# Altium footprint library Passives.PcbLib: 12 footprints
Each footprint in its own frame and in the unit in brackets; x right, y up, seen from the top. Pads: shape width x height; smd on the part's side, far side on the other; paste and mask are expansions set on the pad; w line width, h text height; cw(c..) or ccw(c..) is an arc to the next point about the centre after c.
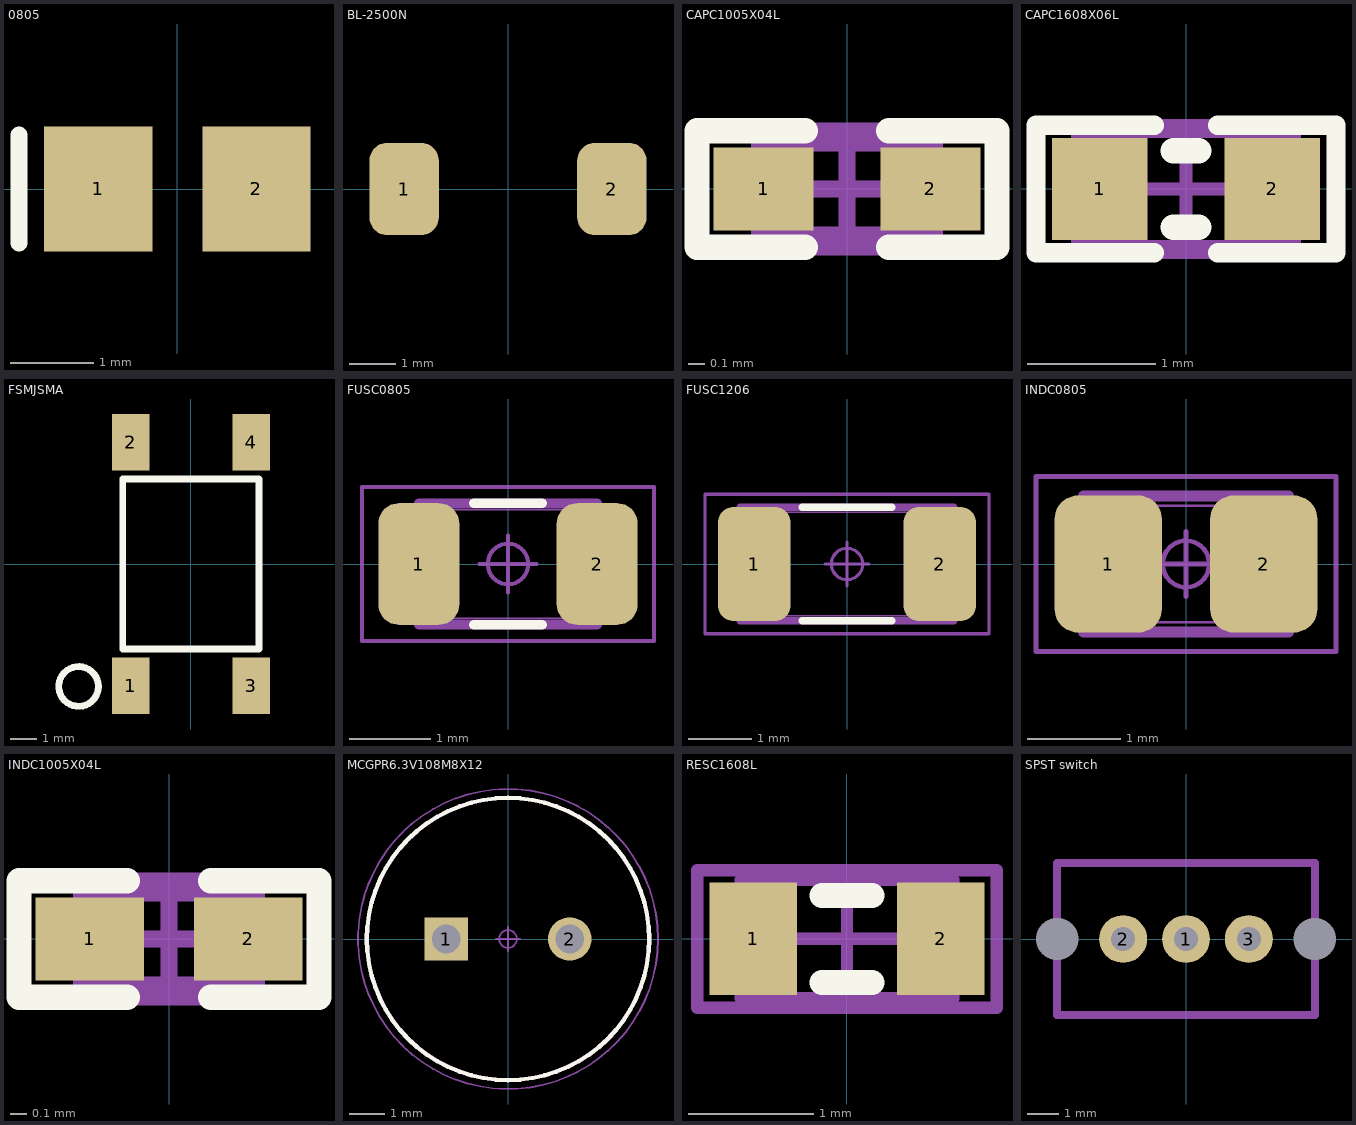
[diagram p0: the footprints below, top view; thin cyan lines are the x and y axes]

## 0805 [mm] "Chip Capacitor; Body 2.0 x 1.2 mm (LxW typ)"
height 1.3
pads (2):
  rect 1.3x1.5 smd: 1(-0.95,0) 2(0.95,0)
Top Overlay:
  lines w0.2: -1.9,-0.65 -1.9,0.65

## BL-2500N [mm] "Vibration sensor switch"
pads (2):
  rrect50% 1.5x2 smd: 1(-2.25,0) 2(2.25,0)
3D body: height 2.5, standoff 0, extent -2.4,-1.25 2.4,1.25

## CAPC1005X04L [mm] "Chip Capacitor, 2-Leads, Body 1.0x0.5mm, IPC High Density"
height 0.4
pads (2):
  rect 0.6x0.5 smd: 1(-0.5,0) 2(0.5,0)
Top Overlay:
  lines w0.152: -0.25,-0.35 -0.9,-0.35 -0.9,0.35 -0.25,0.35 ; 0.25,-0.35 0.9,-0.35 0.9,0.35 0.25,0.35
3D Top:
  lines w0.1: -0.525,-0.275 0.525,-0.275 0.525,0.275 -0.525,0.275 -0.525,-0.275
Courtyard Top:
  lines w0.1: -0.275,0 0.275,0 ; 0,-0.275 0,0.275 ; -0.9,-0.35 -0.9,0.35 0.9,0.35 0.9,-0.35 -0.9,-0.35
3D body: height 0.5, standoff -0.01, extent -0.508,-0.254 0.508,0.254

## CAPC1608X06L [mm] "Chip Capacitor, 2-Leads, Body 1.6x0.8mm, IPC High Density"
height 0.55
pads (2):
  rect 0.75x0.8 smd: 1(-0.675,0) 2(0.675,0)
Top Overlay:
  lines w0.152: -0.25,-0.5 -1.175,-0.5 -1.175,0.5 -0.25,0.5 ; 0.25,-0.5 1.175,-0.5 1.175,0.5 0.25,0.5
  lines w0.2: -0.1,-0.3 0.1,-0.3 ; -0.1,0.3 0.1,0.3
3D Top:
  lines w0.1: -0.85,-0.45 0.85,-0.45 0.85,0.45 -0.85,0.45 -0.85,-0.45
Courtyard Top:
  lines w0.1: -0.45,0 0.45,0 ; 0,-0.45 0,0.45 ; -1.175,-0.5 -1.175,0.5 1.175,0.5 1.175,-0.5 -1.175,-0.5
3D body: height 0.8, standoff 0, extent -0.8,-0.43 0.8,0.43

## FSMJSMA [mm] "TE switch SMT"
pads (4):
  rect 1.4x2.1 smd: 1(-2.25,-4.55) 2(-2.25,4.55) 3(2.25,-4.55) 4(2.25,4.55)
Top Overlay:
  circle w0.254: c-4.191,-4.572 r0.741
  lines w0.254: -2.54,-3.175 2.54,-3.175 2.54,3.175 -2.54,3.175 -2.54,-3.175
3D body: height 5.1, standoff -0.01, extent -3,-5 3,5

## FUSC0805 [mm] "FUSC0805"
height 1.25
pads (2):
  rrect50% 1x1.5 smd: 1(-1.1,0) 2(1.1,0)
Top Overlay:
  lines w0.12: -0.42,-0.75 0.42,-0.75 ; -0.42,0.75 0.42,0.75
Assembly Top:
  lines w0.12: -1.1,-0.75 1.1,-0.75 1.1,0.75 -1.1,0.75 -1.1,-0.75
3D Top:
  lines w0.025: -1.05,-0.675 -1.05,0.675 ; -1.05,-0.675 -0.945,-0.675 -0.945,0.675 -1.05,0.675 ; -1.05,-0.675 1.05,-0.675 ; -1.05,-0.675 -1.05,0.675 ; -1.05,0.675 1.05,0.675 ; 1.05,-0.675 0.945,-0.675 0.945,0.675 1.05,0.675 ; 1.05,-0.675 1.05,0.675 ; 1.05,-0.675 1.05,0.675
Courtyard Top:
  circle w0.05: c0,0 r0.25
  lines w0.05: -0.35,0 0.35,0 ; 0,-0.35 0,0.35 ; -1.8,-0.95 1.8,-0.95 1.8,0.95 -1.8,0.95 -1.8,-0.95
3D body: height 1.25, standoff 0, extent -1.05,-0.675 1.05,0.675

## FUSC1206 [mm]
height 0.6
pads (2):
  rrect43% 1.16x1.82 smd: 1(-1.475,0) 2(1.475,0)
Top Overlay:
  lines w0.12: -0.715,-0.9 0.715,-0.9 ; -0.715,0.9 0.715,0.9
Assembly Top:
  lines w0.12: -1.7,-0.9 1.7,-0.9 1.7,0.9 -1.7,0.9 -1.7,-0.9
3D Top:
  lines w0.025: -1.6,-0.825 -1.6,0.825 ; -1.6,-0.825 -1.1,-0.825 -1.1,0.825 -1.6,0.825 ; -1.6,-0.825 1.6,-0.825 ; -1.6,-0.825 -1.6,0.825 ; -1.6,0.825 1.6,0.825 ; 1.6,-0.825 1.1,-0.825 1.1,0.825 1.6,0.825 ; 1.6,-0.825 1.6,0.825 ; 1.6,-0.825 1.6,0.825
Courtyard Top:
  circle w0.05: c0,0 r0.25
  lines w0.05: -0.35,0 0.35,0 ; 0,-0.35 0,0.35 ; -2.26,-1.11 2.26,-1.11 2.26,1.11 -2.26,1.11 -2.26,-1.11
3D body: height 0.6, standoff 0, extent -1.6,-0.825 1.6,0.825

## INDC0805 [mm]
height 1.1
pads (2):
  rrect43% 1.15x1.47 smd: 1(-0.835,0) 2(0.835,0)
Assembly Top:
  lines w0.12: -1.1,-0.73 -1.1,0.73 1.1,0.73 1.1,-0.73 -1.1,-0.73
3D Top:
  lines w0.025: -1,-0.625 -1,0.625 ; -1,-0.625 1,-0.625 ; -1,-0.625 -0.5,-0.625 -0.5,0.625 -1,0.625 ; -1,-0.625 -1,0.625 ; -1,0.625 1,0.625 ; 1,-0.625 1,0.625 ; 1,-0.625 1,0.625 ; 1,-0.625 0.5,-0.625 0.5,0.625 1,0.625
Courtyard Top:
  circle w0.05: c0,0 r0.25
  lines w0.05: -0.35,0 0.35,0 ; 0,-0.35 0,0.35 ; -1.61,-0.94 -1.61,0.94 1.61,0.94 1.61,-0.94 -1.61,-0.94
3D body: height 1.1, standoff 0, extent -1,-0.625 1,0.625

## INDC1005X04L [mm] "Chip Inductor, 2-Leads, Body 1.0x0.5mm, IPC High Density"
height 0.4
pads (2):
  rect 0.65x0.5 smd: 1(-0.475,0) 2(0.475,0)
Top Overlay:
  lines w0.152: -0.25,-0.35 -0.9,-0.35 -0.9,0.35 -0.25,0.35 ; 0.25,-0.35 0.9,-0.35 0.9,0.35 0.25,0.35
3D Top:
  lines w0.1: -0.525,-0.275 -0.525,0.275 0.525,0.275 0.525,-0.275 -0.525,-0.275
Courtyard Top:
  lines w0.1: -0.275,0 0.275,0 ; 0,-0.275 0,0.275 ; -0.9,-0.35 -0.9,0.35 0.9,0.35 0.9,-0.35 -0.9,-0.35
3D body: height 0.5, standoff 0, extent -0.5,-0.3 0.5,0.3

## MCGPR6.3V108M8X12 [mm]
height 11
pads (2):
  rect 1.23x1.23 hole 0.82: 1(-1.75,0)
  round 1.23 hole 0.82: 2(1.75,0)
Top Overlay:
  circle w0.12: c0,0 r4
Assembly Top:
  circle w0.12: c0,0 r4
3D Top:
  circle w0.025: c0,0 r4
  circle w0.025: c-1.75,0 r0.31
  circle w0.025: c1.75,0 r0.31
Courtyard Top:
  circle w0.05: c0,0 r4.25
  circle w0.05: c0,0 r0.25
  lines w0.05: -0.35,0 0.35,0 ; 0,-0.35 0,0.35
3D body: height 11.01, standoff -2, extent -4,-4 4.01,4

## RESC1608L [mm] "Chip Resistor, Body 1.6x0.8mm, IPC High Density"
height 0.6
pads (2):
  rect 0.7x0.9 smd: 1(-0.75,0) 2(0.75,0)
Top Overlay:
  lines w0.2: -0.2,-0.35 0.2,-0.35 ; -0.2,0.35 0.2,0.35
3D Top:
  lines w0.1: -0.85,-0.475 -0.85,0.475 0.85,0.475 0.85,-0.475 -0.85,-0.475
Courtyard Top:
  lines w0.1: -0.475,0 0.475,0 ; 0,-0.475 0,0.475 ; -1.2,-0.55 -1.2,0.55 1.2,0.55 1.2,-0.55 -1.2,-0.55
3D body: height 0.6, standoff 0, extent -0.85,-0.475 0.85,0.475

## SPST switch [mm] "MGU switch"
pads (5):
  round 1.524 hole 0.762: 1(0,0) 2(-2,0) 3(2,0)
  round 1 hole 1.35 unplated: ""(-4.1,0) ""(4.1,0)
3D Top:
  lines w0.254: -4.1,-2.413 4.1,-2.413 4.1,2.413 -4.1,2.413 -4.1,-2.413
3D body: height 4.7, standoff -2.6, extent -4.3,-7.241 4.3,2.159